# EAGLE library part INA220AIDGSR (library pimoroni-ics)
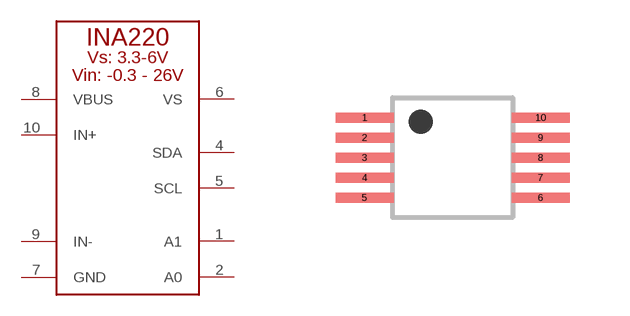
[diagram p117: symbol with the pads of VSSOP-10; footprint VSSOP-10]

Designator prefix U

## INA220AIDGSR  [VSSOP-10]
1  A1
2  A0
4  SDA
5  SCL
6  VS
7  GND
8  VBUS
9  IN-
10  IN+

## Footprint VSSOP-10 (pad centres in mm)
smd 1.45 x 0.25: 1 -2.2,1; 2 -2.2,0.5; 3 -2.2,0; 4 -2.2,-0.5; 5 -2.2,-1; 6 2.2,-1; 7 2.2,-0.5; 8 2.2,0; 9 2.2,0.5; 10 2.2,1